# Altium integrated library Analog Devices Data Converters Digital-to-Analog Converters.IntLib: 2231 symbols (part 78 of 181)
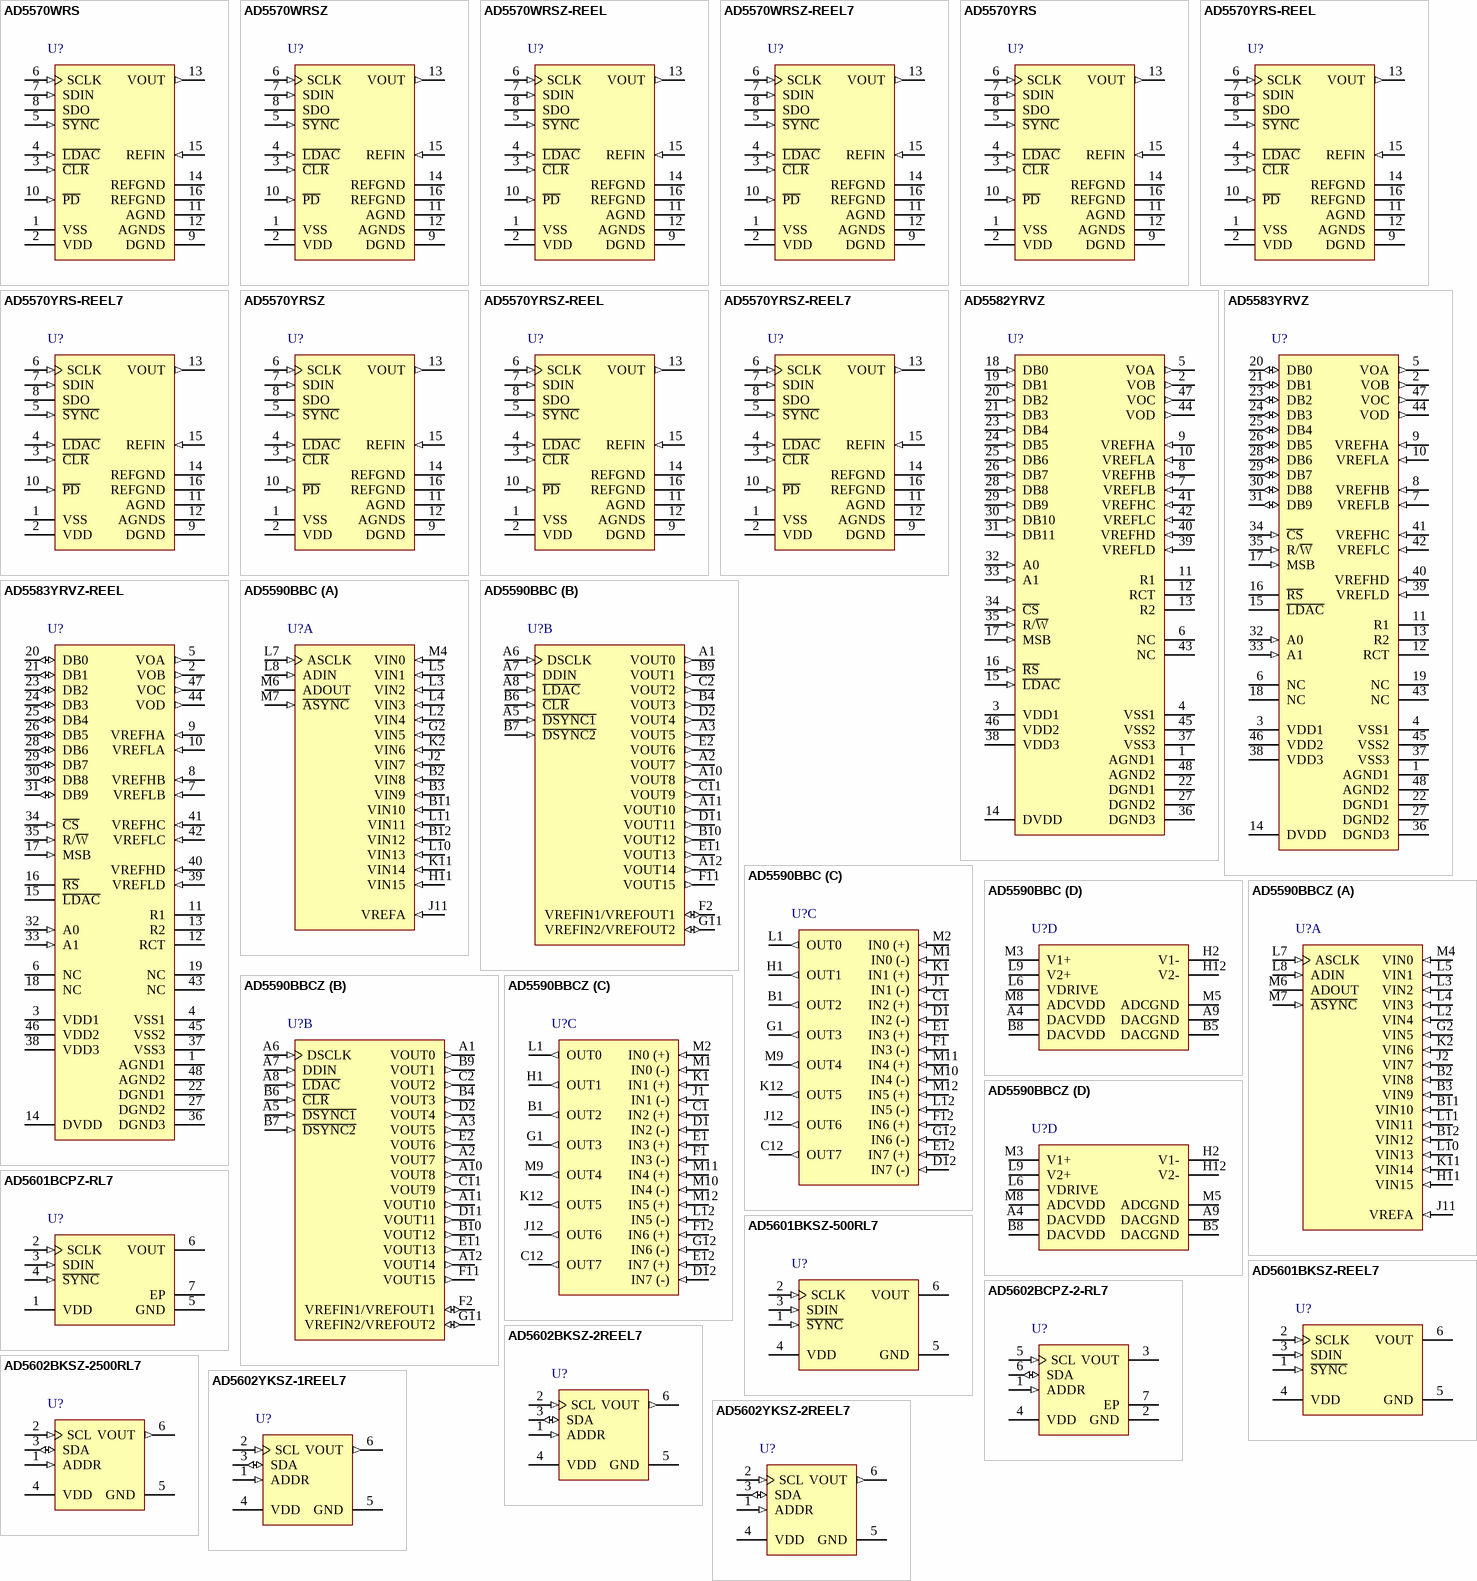
[diagram p191: symbols AD5570WRS to AD5602YKSZ-2REEL7]

## AD5602YKSZ-1REEL7
designator U?
Single 8-Bit nanoDAC with I2C Interface, 2.7 to 5.5 V, <100 uA, -40 to +125 degC, KS-6, Pb-Free, Reel; Generic Part Number: AD5602; Manufacturer: Analog Devices; PartNumber: AD5602YKSZ-1REEL7; # DAC Outputs: 1; Max V+: 5.5V; Op Pwr Diss: 500µW; Resolution (Bits): 8; Settling Time: 6µs; Single Supply: Yes; DatasheetVersion: Rev.C; PackageVersion: 072809-A; PackageReference: KS-6; PackageDescription: 6-Lead Thin Shrink Small Outline Transistor Package [SC70]; Supplier 1: Digi-Key; Supplier Part Number 1: AD5602YKSZ-1REEL7TR-ND; Supplier 2: Digi-Key; Supplier Part Number 2: AD5602YKSZ-1REEL7CT-ND; Supplier 3: Digi-Key; Supplier Part Number 3: AD5602YKSZ-1REEL7DKR-ND; Supplier 4: Mouser; Supplier Part Number 4: 584-AD5602YKSZ-1R7; Packing: Reel; RoHS: Y; Mounting Technology: Surface Mount; Code_JEDEC: MO-203-AB; ComponentLink1Description: Manufacturer URL; ComponentLink1URL: http://www.analog.com/en/index.html; ComponentLink2Description: Datasheet; ComponentLink2URL: http://www.analog.com/static/imported-files/data_sheets/AD5602_5612_5622.pdf; ComponentLink3Description: Package Specification; ComponentLink3URL: http://www.analog.com/static/imported-files/packages/PKG_PDF/SC70(KS)/KS_6.pdf; ComponentLink4Description: Product URL; ComponentLink4URL: http://www.analog.com/en/digital-to-analog-converters/da-converters/ad5602/products/product.html
footprint KS-6_N (SOT23, 6-Leads, Body 2x1.3mm, Pitch 0.65mm, Lead Span 2.1mm, IPC Medium Density)
footprint KS-6_L (SOT23, 6-Leads, Body 2x1.3mm, Pitch 0.65mm, Lead Span 2.1mm, IPC High Density)
footprint KS-6_M (SOT23, 6-Leads, Body 2x1.3mm, Pitch 0.65mm, Lead Span 2.1mm, IPC Low Density)
pins: 1 ADDR (in) "Three-State Address Input. Sets the two least significant bits (Bit A1, Bit A0) of the 7-bit slave address.", 2 SCL (in) "Serial Clock Line. This is used in conjunction with the SDA line to clock data into or out of the 16-bit input register.", 3 SDA (io) "Serial Data Line. This is used in conjunction with the SCL line to clock data into or out of the 16-bit input register. It is a bidirectional, open-drain data line that should be pulled to the supply with an external pull-up (See Datasheet)", 4 VDD (power) "Power Supply Input. These parts can be operated from 2.7 V to 5.5 V, and VDD should be decoupled to GND.", 5 GND (power) "Ground. The ground reference point for all circuitry on the part.", 6 VOUT (out) "Analog Output Voltage from the DAC. The output amplifier has rail-to-rail operation."

## AD5602YKSZ-2REEL7
designator U?
Single 8-Bit nanoDAC with I2C Interface, 2.7 to 5.5 V, <100 uA, -40 to +125 degC, KS-6, Pb-Free, Reel; Generic Part Number: AD5602; Manufacturer: Analog Devices; PartNumber: AD5602YKSZ-2REEL7; # DAC Outputs: 1; Max V+: 5.5V; Op Pwr Diss: 500µW; Resolution (Bits): 8; Settling Time: 6µs; Single Supply: Yes; DatasheetVersion: Rev.C; PackageVersion: 072809-A; PackageReference: KS-6; PackageDescription: 6-Lead Thin Shrink Small Outline Transistor Package [SC70]; Supplier 1: Digi-Key; Supplier Part Number 1: AD5602YKSZ-2REEL7TR-ND; Supplier 2: Digi-Key; Supplier Part Number 2: AD5602YKSZ-2REEL7CT-ND; Supplier 3: Digi-Key; Supplier Part Number 3: AD5602YKSZ-2REEL7DKR-ND; Supplier 4: Mouser; Supplier Part Number 4: 584-AD5602YKSZ-2R7; Packing: Reel; RoHS: Y; Mounting Technology: Surface Mount; Code_JEDEC: MO-203-AB; ComponentLink1Description: Manufacturer URL; ComponentLink1URL: http://www.analog.com/en/index.html; ComponentLink2Description: Datasheet; ComponentLink2URL: http://www.analog.com/static/imported-files/data_sheets/AD5602_5612_5622.pdf; ComponentLink3Description: Package Specification; ComponentLink3URL: http://www.analog.com/static/imported-files/packages/PKG_PDF/SC70(KS)/KS_6.pdf; ComponentLink4Description: Product URL; ComponentLink4URL: http://www.analog.com/en/digital-to-analog-converters/da-converters/ad5602/products/product.html
footprint KS-6_N (SOT23, 6-Leads, Body 2x1.3mm, Pitch 0.65mm, Lead Span 2.1mm, IPC Medium Density)
footprint KS-6_L (SOT23, 6-Leads, Body 2x1.3mm, Pitch 0.65mm, Lead Span 2.1mm, IPC High Density)
footprint KS-6_M (SOT23, 6-Leads, Body 2x1.3mm, Pitch 0.65mm, Lead Span 2.1mm, IPC Low Density)
pins: 1 ADDR (in) "Three-State Address Input. Sets the two least significant bits (Bit A1, Bit A0) of the 7-bit slave address.", 2 SCL (in) "Serial Clock Line. This is used in conjunction with the SDA line to clock data into or out of the 16-bit input register.", 3 SDA (io) "Serial Data Line. This is used in conjunction with the SCL line to clock data into or out of the 16-bit input register. It is a bidirectional, open-drain data line that should be pulled to the supply with an external pull-up (See Datasheet)", 4 VDD (power) "Power Supply Input. These parts can be operated from 2.7 V to 5.5 V, and VDD should be decoupled to GND.", 5 GND (power) "Ground. The ground reference point for all circuitry on the part.", 6 VOUT (out) "Analog Output Voltage from the DAC. The output amplifier has rail-to-rail operation."

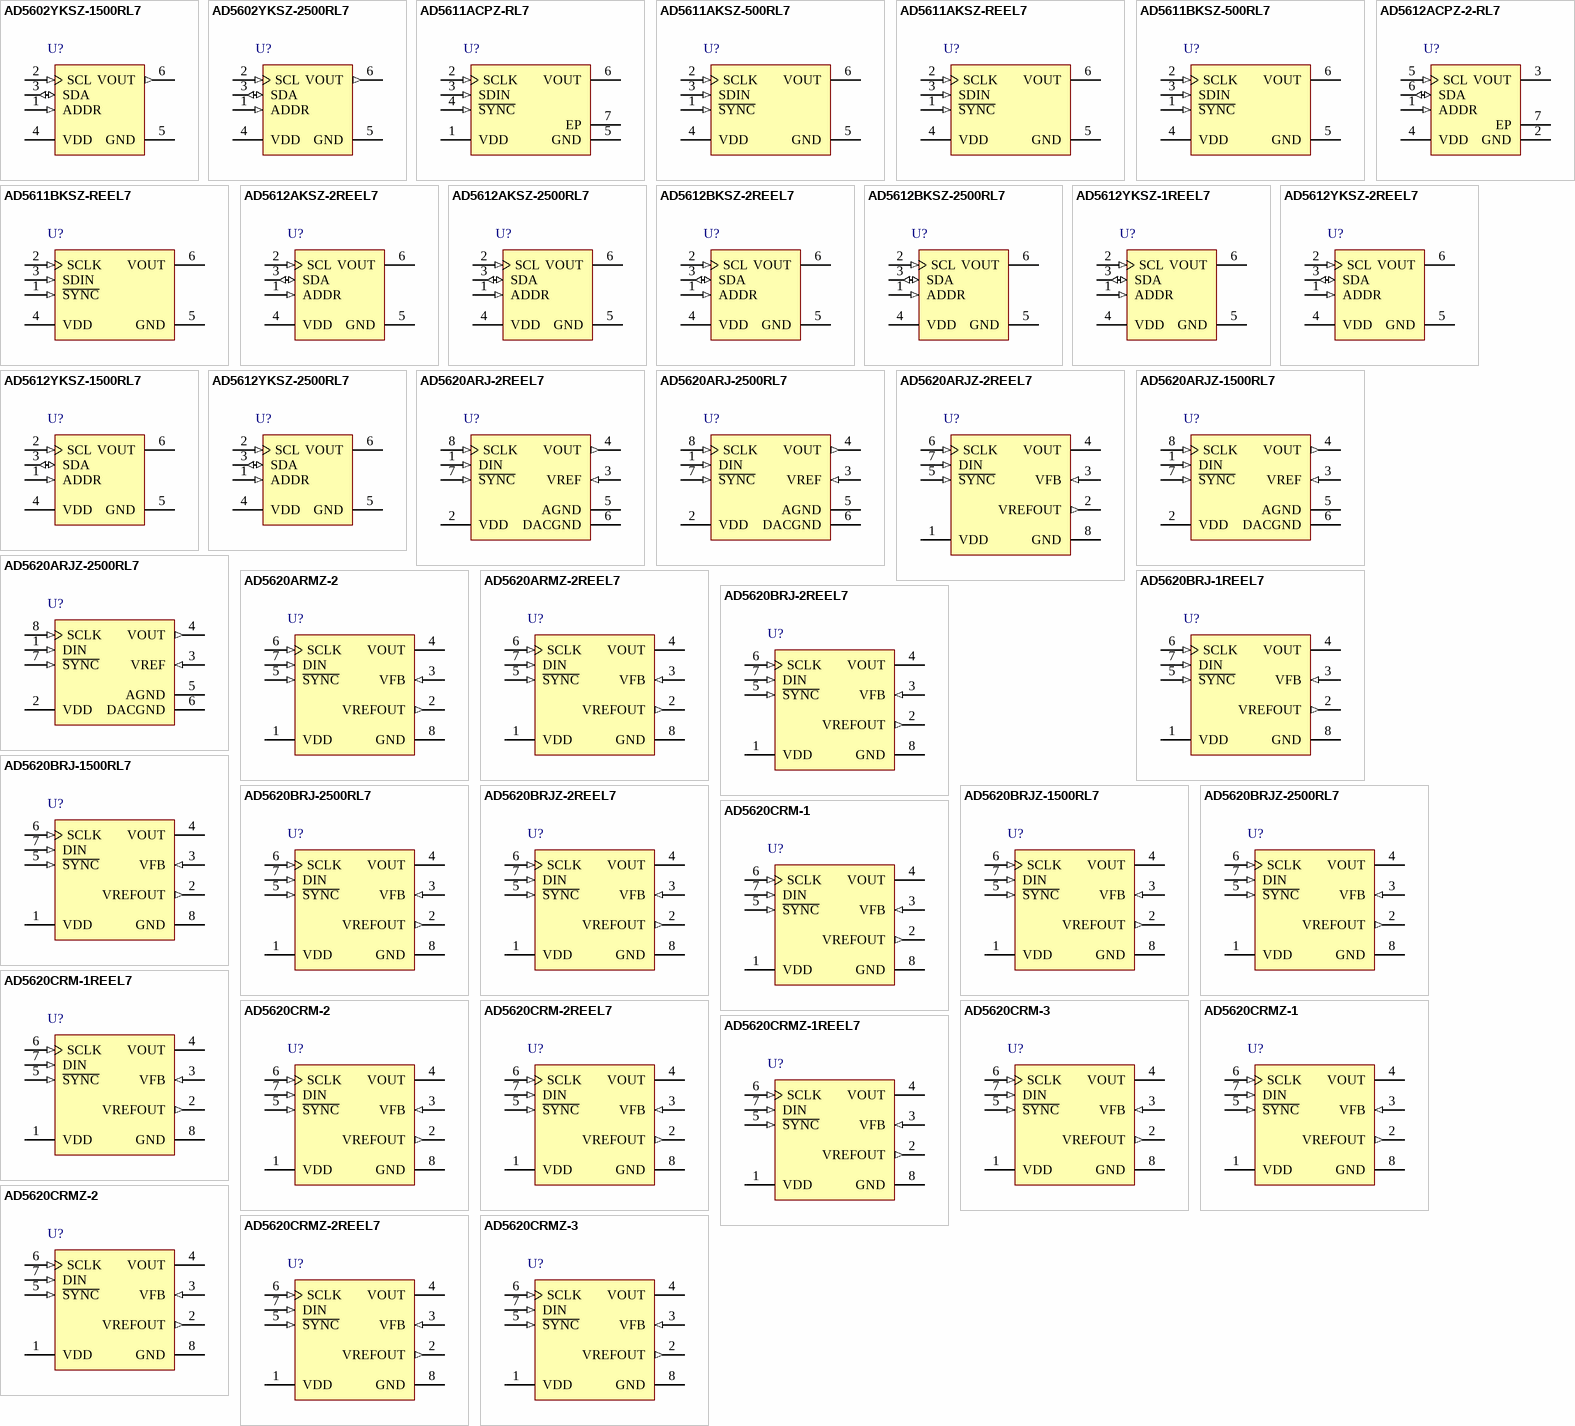
[diagram p43: symbols AD5602YKSZ-1500RL7 to AD5620CRMZ-3]

## AD5602YKSZ-1500RL7
designator U?
Single 8-Bit nanoDAC with I2C Interface, 2.7 to 5.5 V, <100 uA, -40 to +125 degC, KS-6, Pb-Free, Reel; Generic Part Number: AD5602; Manufacturer: Analog Devices; PartNumber: AD5602YKSZ-1500RL7; # DAC Outputs: 1; Max V+: 5.5V; Op Pwr Diss: 500µW; Resolution (Bits): 8; Settling Time: 6µs; Single Supply: Yes; DatasheetVersion: Rev.C; PackageVersion: 072809-A; PackageReference: KS-6; PackageDescription: 6-Lead Thin Shrink Small Outline Transistor Package [SC70]; Supplier 1: Digi-Key; Supplier Part Number 1: AD5602YKSZ-1500RL7TR-ND; Supplier 2: Digi-Key; Supplier Part Number 2: AD5602YKSZ-1500RL7CT-ND; Supplier 3: Digi-Key; Supplier Part Number 3: AD5602YKSZ-1500RL7DKR-ND; Supplier 4: Mouser; Supplier Part Number 4: 584-AD5602YKSZ1500R7; Packing: Reel; RoHS: Y; Mounting Technology: Surface Mount; Code_JEDEC: MO-203-AB; ComponentLink1Description: Manufacturer URL; ComponentLink1URL: http://www.analog.com/en/index.html; ComponentLink2Description: Datasheet; ComponentLink2URL: http://www.analog.com/static/imported-files/data_sheets/AD5602_5612_5622.pdf; ComponentLink3Description: Package Specification; ComponentLink3URL: http://www.analog.com/static/imported-files/packages/PKG_PDF/SC70(KS)/KS_6.pdf; ComponentLink4Description: Product URL; ComponentLink4URL: http://www.analog.com/en/digital-to-analog-converters/da-converters/ad5602/products/product.html
footprint KS-6_N (SOT23, 6-Leads, Body 2x1.3mm, Pitch 0.65mm, Lead Span 2.1mm, IPC Medium Density)
footprint KS-6_L (SOT23, 6-Leads, Body 2x1.3mm, Pitch 0.65mm, Lead Span 2.1mm, IPC High Density)
footprint KS-6_M (SOT23, 6-Leads, Body 2x1.3mm, Pitch 0.65mm, Lead Span 2.1mm, IPC Low Density)
pins: 1 ADDR (in) "Three-State Address Input. Sets the two least significant bits (Bit A1, Bit A0) of the 7-bit slave address.", 2 SCL (in) "Serial Clock Line. This is used in conjunction with the SDA line to clock data into or out of the 16-bit input register.", 3 SDA (io) "Serial Data Line. This is used in conjunction with the SCL line to clock data into or out of the 16-bit input register. It is a bidirectional, open-drain data line that should be pulled to the supply with an external pull-up (See Datasheet)", 4 VDD (power) "Power Supply Input. These parts can be operated from 2.7 V to 5.5 V, and VDD should be decoupled to GND.", 5 GND (power) "Ground. The ground reference point for all circuitry on the part.", 6 VOUT (out) "Analog Output Voltage from the DAC. The output amplifier has rail-to-rail operation."

## AD5602YKSZ-2500RL7
designator U?
Single 8-Bit nanoDAC with I2C Interface, 2.7 to 5.5 V, <100 uA, -40 to +125 degC, KS-6, Pb-Free, Reel; Generic Part Number: AD5602; Manufacturer: Analog Devices; PartNumber: AD5602YKSZ-2500RL7; # DAC Outputs: 1; Max V+: 5.5V; Op Pwr Diss: 500µW; Resolution (Bits): 8; Settling Time: 6µs; Single Supply: Yes; DatasheetVersion: Rev.C; PackageVersion: 072809-A; PackageReference: KS-6; PackageDescription: 6-Lead Thin Shrink Small Outline Transistor Package [SC70]; Supplier 1: Digi-Key; Supplier Part Number 1: AD5602YKSZ-2500RL7TR-ND; Supplier 2: Digi-Key; Supplier Part Number 2: AD5602YKSZ-2500RL7CT-ND; Supplier 3: Digi-Key; Supplier Part Number 3: AD5602YKSZ-2500RL7DKR-ND; Supplier 4: Mouser; Supplier Part Number 4: 584-AD5602YKSZ2500R7; Packing: Reel; RoHS: Y; Mounting Technology: Surface Mount; Code_JEDEC: MO-203-AB; ComponentLink1Description: Manufacturer URL; ComponentLink1URL: http://www.analog.com/en/index.html; ComponentLink2Description: Datasheet; ComponentLink2URL: http://www.analog.com/static/imported-files/data_sheets/AD5602_5612_5622.pdf; ComponentLink3Description: Package Specification; ComponentLink3URL: http://www.analog.com/static/imported-files/packages/PKG_PDF/SC70(KS)/KS_6.pdf; ComponentLink4Description: Product URL; ComponentLink4URL: http://www.analog.com/en/digital-to-analog-converters/da-converters/ad5602/products/product.html
footprint KS-6_N (SOT23, 6-Leads, Body 2x1.3mm, Pitch 0.65mm, Lead Span 2.1mm, IPC Medium Density)
footprint KS-6_L (SOT23, 6-Leads, Body 2x1.3mm, Pitch 0.65mm, Lead Span 2.1mm, IPC High Density)
footprint KS-6_M (SOT23, 6-Leads, Body 2x1.3mm, Pitch 0.65mm, Lead Span 2.1mm, IPC Low Density)
pins: 1 ADDR (in) "Three-State Address Input. Sets the two least significant bits (Bit A1, Bit A0) of the 7-bit slave address.", 2 SCL (in) "Serial Clock Line. This is used in conjunction with the SDA line to clock data into or out of the 16-bit input register.", 3 SDA (io) "Serial Data Line. This is used in conjunction with the SCL line to clock data into or out of the 16-bit input register. It is a bidirectional, open-drain data line that should be pulled to the supply with an external pull-up (See Datasheet)", 4 VDD (power) "Power Supply Input. These parts can be operated from 2.7 V to 5.5 V, and VDD should be decoupled to GND.", 5 GND (power) "Ground. The ground reference point for all circuitry on the part.", 6 VOUT (out) "Analog Output Voltage from the DAC. The output amplifier has rail-to-rail operation."

## AD5611ACPZ-RL7
designator U?
Single 10-Bit nanoDAC with SPI Interface, 2.7 to 5.5 V, <100 uA, -40 to +125 degC, CP-6-5, Pb-Free, Reel; Generic Part Number: AD5611; Manufacturer: Analog Devices; PartNumber: AD5611ACPZ-RL7; # DAC Outputs: 1; Max V+: 5.5V; Op Pwr Diss: 550µW; Resolution (Bits): 10; Settling Time: 6µs; Single Supply: Yes; DatasheetVersion: Rev.F; PackageVersion: 10-18-2010 A; PackageReference: CP-6-5; PackageDescription: 6-Lead Lead Frame Chip Scale Package [LFCSP_WD] 2 × 3 mm Body, Very Very Thin, Dual Lead; Supplier 1: Digi-Key; Supplier Part Number 1: AD5611ACPZ-RL7TR-ND; Supplier 2: Digi-Key; Supplier Part Number 2: AD5611ACPZ-RL7CT-ND; Supplier 3: Digi-Key; Supplier Part Number 3: AD5611ACPZ-RL7DKR-ND; Supplier 4: Newark; Supplier Part Number 4: 86T6088; Supplier 5: Newark; Supplier Part Number 5: 92T3212; Supplier 6: Mouser; Supplier Part Number 6: 584-AD5611ACPZ-R7; Packing: Reel; RoHS: Y; Mounting Technology: Surface Mount; Code_JEDEC: MO-229; ComponentLink1Description: Manufacturer URL; ComponentLink1URL: http://www.analog.com/en/index.html; ComponentLink2Description: Datasheet; ComponentLink2URL: http://www.analog.com/static/imported-files/data_sheets/AD5601_5611_5621.pdf; ComponentLink3Description: Package Specification; ComponentLink3URL: http://www.analog.com/static/imported-files/data_sheets/AD5062.pdf; ComponentLink4Description: Product URL; ComponentLink4URL: http://www.analog.com/en/digital-to-analog-converters/da-converters/ad5611/products/product.html
footprint CP-6-5_N (SON, 6-Leads, Body 3x2mm, Pitch 0.65mm, Thermal Pad 1.6x1.4mm, IPC Medium Density)
footprint CP-6-5_L (SON, 6-Leads, Body 3x2mm, Pitch 0.65mm, Thermal Pad 1.6x1.4mm, IPC High Density)
footprint CP-6-5_M (SON, 6-Leads, Body 3x2mm, Pitch 0.65mm, Thermal Pad 1.6x1.4mm, IPC Low Density)
pins: 1 VDD (power) "Power Supply Input. The AD5611 can be operated from 2.7 V to 5.5 V. VDD should be decoupled to GND.", 2 SCLK (in) "Serial Clock Input. Data is clocked into the input shift register on the falling edge of the serial clock input. Data can be transferred at rates up to 30 MHz.", 3 SDIN (in) "Serial Data Input. This device has a 16-bit shift register. Data is clocked into the register on the falling edge of the serial clock input.", 4 ~{SYNC} (in) "Level-Triggered Control Input (Active Low). This is the frame synchronization signal for the input data. When S\Y\N\C\ goes low, it enables the input shift register, and data is transferred in on the falling edges of the (See Datasheet)", 5 GND (power) "Ground. Ground reference point for all circuitry on the AD5611.", 6 VOUT (hiz) "Analog Output Voltage from the DAC. The output amplifier has rail-to-rail operation.", 7 EP (power) "Exposed Pad. Connect to GND."

## AD5611AKSZ-500RL7
designator U?
Single 10-Bit nanoDAC with SPI Interface, 2.7 to 5.5 V, <100 uA, -40 to +125 degC, KS-6, Pb-Free, Reel; Generic Part Number: AD5611; Manufacturer: Analog Devices; PartNumber: AD5611AKSZ-500RL7; # DAC Outputs: 1; Max V+: 5.5V; Op Pwr Diss: 550µW; Resolution (Bits): 10; Settling Time: 6µs; Single Supply: Yes; DatasheetVersion: Rev.F; PackageVersion: 072809-A; PackageReference: KS-6; PackageDescription: 6-Lead Thin Shrink Small Outline Transistor Package [SC70]; Supplier 1: Digi-Key; Supplier Part Number 1: AD5611AKSZ-500RL7TR-ND; Supplier 2: Digi-Key; Supplier Part Number 2: AD5611AKSZ-500RL7CT-ND; Supplier 3: Digi-Key; Supplier Part Number 3: AD5611AKSZ-500RL7DKR-ND; Supplier 4: Farnell; Supplier Part Number 4: 1117912; Supplier 5: Farnell; Supplier Part Number 5: 1472413; Supplier 6: Newark; Supplier Part Number 6: 59K4267; Supplier 7: Mouser; Supplier Part Number 7: 584-AD5611AKSZ-500R7; Packing: Reel; RoHS: Y; Mounting Technology: Surface Mount; Code_JEDEC: MO-203-AB; ComponentLink1Description: Manufacturer URL; ComponentLink1URL: http://www.analog.com/en/index.html; ComponentLink2Description: Datasheet; ComponentLink2URL: http://www.analog.com/static/imported-files/data_sheets/AD5601_5611_5621.pdf; ComponentLink3Description: Package Specification; ComponentLink3URL: http://www.analog.com/static/imported-files/packages/PKG_PDF/SC70(KS)/KS_6.pdf; ComponentLink4Description: Product URL; ComponentLink4URL: http://www.analog.com/en/digital-to-analog-converters/da-converters/ad5611/products/product.html
footprint KS-6_N (SOT23, 6-Leads, Body 2x1.3mm, Pitch 0.65mm, Lead Span 2.1mm, IPC Medium Density)
footprint KS-6_L (SOT23, 6-Leads, Body 2x1.3mm, Pitch 0.65mm, Lead Span 2.1mm, IPC High Density)
footprint KS-6_M (SOT23, 6-Leads, Body 2x1.3mm, Pitch 0.65mm, Lead Span 2.1mm, IPC Low Density)
pins: 1 ~{SYNC} (in) "Level-Triggered Control Input (Active Low). This is the frame synchronization signal for the input data. When S\Y\N\C\  goes low, it enables the input shift register, and data is transferred in on the falling edges of the (See Datasheet)", 2 SCLK (in) "Serial Clock Input. Data is clocked into the input shift register on the falling edge of the serial clock input. Data can be transferred at rates up to 30 MHz.", 3 SDIN (in) "Serial Data Input. This device has a 16-bit shift register. Data is clocked into the register on the falling edge of the serial clock input.", 4 VDD (power) "Power Supply Input. The AD5611 can be operated from 2.7 V to 5.5 V. VDD should be decoupled to GND.", 5 GND (power) "Ground. Ground reference point for all circuitry on the AD5611.", 6 VOUT (hiz) "Analog Output Voltage from the DAC. The output amplifier has rail-to-rail operation."

## AD5611AKSZ-REEL7
designator U?
Single 10-Bit nanoDAC with SPI Interface, 2.7 to 5.5 V, <100 uA, -40 to +125 degC, KS-6, Pb-Free, Reel; Generic Part Number: AD5611; Manufacturer: Analog Devices; PartNumber: AD5611AKSZ-REEL7; # DAC Outputs: 1; Max V+: 5.5V; Op Pwr Diss: 550µW; Resolution (Bits): 10; Settling Time: 6µs; Single Supply: Yes; DatasheetVersion: Rev.F; PackageVersion: 072809-A; PackageReference: KS-6; PackageDescription: 6-Lead Thin Shrink Small Outline Transistor Package [SC70]; Supplier 1: Digi-Key; Supplier Part Number 1: AD5611AKSZ-REEL7TR-ND; Supplier 2: Digi-Key; Supplier Part Number 2: AD5611AKSZ-REEL7CT-ND; Supplier 3: Digi-Key; Supplier Part Number 3: AD5611AKSZ-REEL7DKR-ND; Supplier 4: Newark; Supplier Part Number 4: 59K4266; Supplier 5: Mouser; Supplier Part Number 5: 584-AD5611AKSZ-R7; Packing: Reel; RoHS: Y; Mounting Technology: Surface Mount; Code_JEDEC: MO-203-AB; ComponentLink1Description: Manufacturer URL; ComponentLink1URL: http://www.analog.com/en/index.html; ComponentLink2Description: Datasheet; ComponentLink2URL: http://www.analog.com/static/imported-files/data_sheets/AD5601_5611_5621.pdf; ComponentLink3Description: Package Specification; ComponentLink3URL: http://www.analog.com/static/imported-files/packages/PKG_PDF/SC70(KS)/KS_6.pdf; ComponentLink4Description: Product URL; ComponentLink4URL: http://www.analog.com/en/digital-to-analog-converters/da-converters/ad5611/products/product.html
footprint KS-6_N (SOT23, 6-Leads, Body 2x1.3mm, Pitch 0.65mm, Lead Span 2.1mm, IPC Medium Density)
footprint KS-6_L (SOT23, 6-Leads, Body 2x1.3mm, Pitch 0.65mm, Lead Span 2.1mm, IPC High Density)
footprint KS-6_M (SOT23, 6-Leads, Body 2x1.3mm, Pitch 0.65mm, Lead Span 2.1mm, IPC Low Density)
pins: 1 ~{SYNC} (in) "Level-Triggered Control Input (Active Low). This is the frame synchronization signal for the input data. When S\Y\N\C\  goes low, it enables the input shift register, and data is transferred in on the falling edges of the (See Datasheet)", 2 SCLK (in) "Serial Clock Input. Data is clocked into the input shift register on the falling edge of the serial clock input. Data can be transferred at rates up to 30 MHz.", 3 SDIN (in) "Serial Data Input. This device has a 16-bit shift register. Data is clocked into the register on the falling edge of the serial clock input.", 4 VDD (power) "Power Supply Input. The AD5611 can be operated from 2.7 V to 5.5 V. VDD should be decoupled to GND.", 5 GND (power) "Ground. Ground reference point for all circuitry on the AD5611.", 6 VOUT (hiz) "Analog Output Voltage from the DAC. The output amplifier has rail-to-rail operation."

## AD5611BKSZ-500RL7
designator U?
Single 10-Bit nanoDAC with SPI Interface, 2.7 to 5.5 V, <100 uA, -40 to +125 degC, KS-6, Pb-Free, Reel; Generic Part Number: AD5611; Manufacturer: Analog Devices; PartNumber: AD5611BKSZ-500RL7; # DAC Outputs: 1; Max V+: 5.5V; Op Pwr Diss: 550µW; Resolution (Bits): 10; Settling Time: 6µs; Single Supply: Yes; DatasheetVersion: Rev.F; PackageVersion: 072809-A; PackageReference: KS-6; PackageDescription: 6-Lead Thin Shrink Small Outline Transistor Package [SC70]; Supplier 1: Digi-Key; Supplier Part Number 1: AD5611BKSZ-500RL7-ND; Supplier 2: Newark; Supplier Part Number 2: 64M7533; Supplier 3: Mouser; Supplier Part Number 3: 584-AD5611BKSZ-500R7; Packing: Reel; RoHS: Y; Mounting Technology: Surface Mount; Code_JEDEC: MO-203-AB; ComponentLink1Description: Manufacturer URL; ComponentLink1URL: http://www.analog.com/en/index.html; ComponentLink2Description: Datasheet; ComponentLink2URL: http://www.analog.com/static/imported-files/data_sheets/AD5601_5611_5621.pdf; ComponentLink3Description: Package Specification; ComponentLink3URL: http://www.analog.com/static/imported-files/packages/PKG_PDF/SC70(KS)/KS_6.pdf; ComponentLink4Description: Product URL; ComponentLink4URL: http://www.analog.com/en/digital-to-analog-converters/da-converters/ad5611/products/product.html
footprint KS-6_N (SOT23, 6-Leads, Body 2x1.3mm, Pitch 0.65mm, Lead Span 2.1mm, IPC Medium Density)
footprint KS-6_L (SOT23, 6-Leads, Body 2x1.3mm, Pitch 0.65mm, Lead Span 2.1mm, IPC High Density)
footprint KS-6_M (SOT23, 6-Leads, Body 2x1.3mm, Pitch 0.65mm, Lead Span 2.1mm, IPC Low Density)
pins: 1 ~{SYNC} (in) "Level-Triggered Control Input (Active Low). This is the frame synchronization signal for the input data. When S\Y\N\C\  goes low, it enables the input shift register, and data is transferred in on the falling edges of the (See Datasheet)", 2 SCLK (in) "Serial Clock Input. Data is clocked into the input shift register on the falling edge of the serial clock input. Data can be transferred at rates up to 30 MHz.", 3 SDIN (in) "Serial Data Input. This device has a 16-bit shift register. Data is clocked into the register on the falling edge of the serial clock input.", 4 VDD (power) "Power Supply Input. The AD5611 can be operated from 2.7 V to 5.5 V. VDD should be decoupled to GND.", 5 GND (power) "Ground. Ground reference point for all circuitry on the AD5611.", 6 VOUT (hiz) "Analog Output Voltage from the DAC. The output amplifier has rail-to-rail operation."

## AD5611BKSZ-REEL7
designator U?
Single 10-Bit nanoDAC with SPI Interface, 2.7 to 5.5 V, <100 uA, -40 to +125 degC, KS-6, Pb-Free, Reel; Generic Part Number: AD5611; Manufacturer: Analog Devices; PartNumber: AD5611BKSZ-REEL7; # DAC Outputs: 1; Max V+: 5.5V; Op Pwr Diss: 550µW; Resolution (Bits): 10; Settling Time: 6µs; Single Supply: Yes; DatasheetVersion: Rev.F; PackageVersion: 072809-A; PackageReference: KS-6; PackageDescription: 6-Lead Thin Shrink Small Outline Transistor Package [SC70]; Supplier 1: Digi-Key; Supplier Part Number 1: AD5611BKSZ-REEL7TR-ND; Supplier 2: Digi-Key; Supplier Part Number 2: AD5611BKSZ-REEL7CT-ND; Supplier 3: Digi-Key; Supplier Part Number 3: AD5611BKSZ-REEL7DKR-ND; Supplier 4: Farnell; Supplier Part Number 4: 2102391; Supplier 5: Newark; Supplier Part Number 5: 59K4268; Supplier 6: Newark; Supplier Part Number 6: 92T3213; Supplier 7: Mouser; Supplier Part Number 7: 584-AD5611BKSZ-R7; Packing: Reel; RoHS: Y; Mounting Technology: Surface Mount; Code_JEDEC: MO-203-AB; ComponentLink1Description: Manufacturer URL; ComponentLink1URL: http://www.analog.com/en/index.html; ComponentLink2Description: Datasheet; ComponentLink2URL: http://www.analog.com/static/imported-files/data_sheets/AD5601_5611_5621.pdf; ComponentLink3Description: Package Specification; ComponentLink3URL: http://www.analog.com/static/imported-files/packages/PKG_PDF/SC70(KS)/KS_6.pdf; ComponentLink4Description: Product URL; ComponentLink4URL: http://www.analog.com/en/digital-to-analog-converters/da-converters/ad5611/products/product.html
footprint KS-6_N (SOT23, 6-Leads, Body 2x1.3mm, Pitch 0.65mm, Lead Span 2.1mm, IPC Medium Density)
footprint KS-6_L (SOT23, 6-Leads, Body 2x1.3mm, Pitch 0.65mm, Lead Span 2.1mm, IPC High Density)
footprint KS-6_M (SOT23, 6-Leads, Body 2x1.3mm, Pitch 0.65mm, Lead Span 2.1mm, IPC Low Density)
pins: 1 ~{SYNC} (in) "Level-Triggered Control Input (Active Low). This is the frame synchronization signal for the input data. When S\Y\N\C\  goes low, it enables the input shift register, and data is transferred in on the falling edges of the (See Datasheet)", 2 SCLK (in) "Serial Clock Input. Data is clocked into the input shift register on the falling edge of the serial clock input. Data can be transferred at rates up to 30 MHz.", 3 SDIN (in) "Serial Data Input. This device has a 16-bit shift register. Data is clocked into the register on the falling edge of the serial clock input.", 4 VDD (power) "Power Supply Input. The AD5611 can be operated from 2.7 V to 5.5 V. VDD should be decoupled to GND.", 5 GND (power) "Ground. Ground reference point for all circuitry on the AD5611.", 6 VOUT (hiz) "Analog Output Voltage from the DAC. The output amplifier has rail-to-rail operation."

## AD5612ACPZ-2-RL7
designator U?
Single 10-Bit nanoDAC with I2C Interface, 2.7 to 5.5 V, <100 uA, -40 to +85 degC, CP-6-5, Pb-Free, Reel; Generic Part Number: AD5612; Manufacturer: Analog Devices; PartNumber: AD5612ACPZ-2-RL7; # DAC Outputs: 1; Max V+: 5.5V; Op Pwr Diss: 500µW; Resolution (Bits): 10; Settling Time: 6µs; Single Supply: Yes; DatasheetVersion: Rev.C; PackageVersion: 10-18-2010 A; PackageReference: CP-6-5; PackageDescription: 6-Lead Lead Frame Chip Scale Package [LFCSP_WD] 2 × 3 mm Body, Very Very Thin, Dual Lead; Supplier 1: Digi-Key; Supplier Part Number 1: AD5612ACPZ-2-RL7TR-ND; Supplier 2: Digi-Key; Supplier Part Number 2: AD5612ACPZ-2-RL7CT-ND; Supplier 3: Digi-Key; Supplier Part Number 3: AD5612ACPZ-2-RL7DKR-ND; Supplier 4: Mouser; Supplier Part Number 4: 584-AD5612ACPZ-2-R7; Packing: Reel; RoHS: Y; Mounting Technology: Surface Mount; Code_JEDEC: MO-229; ComponentLink1Description: Manufacturer URL; ComponentLink1URL: http://www.analog.com/en/index.html; ComponentLink2Description: Datasheet; ComponentLink2URL: http://www.analog.com/static/imported-files/data_sheets/AD5602_5612_5622.pdf; ComponentLink3Description: Package Specification; ComponentLink3URL: http://www.analog.com/static/imported-files/data_sheets/AD5062.pdf; ComponentLink4Description: Product URL; ComponentLink4URL: http://www.analog.com/en/digital-to-analog-converters/da-converters/ad5612/products/product.html
footprint CP-6-5_N (SON, 6-Leads, Body 3x2mm, Pitch 0.65mm, Thermal Pad 1.6x1.4mm, IPC Medium Density)
footprint CP-6-5_L (SON, 6-Leads, Body 3x2mm, Pitch 0.65mm, Thermal Pad 1.6x1.4mm, IPC High Density)
footprint CP-6-5_M (SON, 6-Leads, Body 3x2mm, Pitch 0.65mm, Thermal Pad 1.6x1.4mm, IPC Low Density)
pins: 1 ADDR (in) "Three-State Address Input. Sets the two least significant bits (Bit A1, Bit A0) of the 7-bit slave address (see Table 7).", 2 GND (power) "Ground. The ground reference point for all circuitry on the part.", 3 VOUT (hiz) "Analog Output Voltage from the DAC. The output amplifier has rail-to-rail operation.", 4 VDD (power) "Power Supply Input. These parts can be operated from 2.7 V to 5.5 V, and VDD should be decoupled to GND.", 5 SCL (in) "Serial Clock Line. This is used in conjunction with the SDA line to clock data into or out of the 16-bit input register.", 6 SDA (io) "Serial Data Line. This is used in conjunction with the SCL line to clock data into or out of the 16-bit input register. It is a bidirectional, open-drain data line that should be pulled to the supply with an external pull-up (See Datasheet)", 7 EP (power) "Exposed Pad. The exposed pad should be connected to ground (GND)."

## AD5612AKSZ-2REEL7
designator U?
Single 10-Bit nanoDAC with I2C Interface, 2.7 to 5.5 V, <100 uA, -40 to +85 degC, KS-6, Pb-Free, Reel; Generic Part Number: AD5612; Manufacturer: Analog Devices; PartNumber: AD5612AKSZ-2REEL7; # DAC Outputs: 1; Max V+: 5.5V; Op Pwr Diss: 500µW; Resolution (Bits): 10; Settling Time: 6µs; Single Supply: Yes; DatasheetVersion: Rev.C; PackageVersion: 072809-A; PackageReference: KS-6; PackageDescription: 6-Lead Thin Shrink Small Outline Transistor Package [SC70]; Supplier 1: Digi-Key; Supplier Part Number 1: AD5612AKSZ-2REEL7TR-ND; Supplier 2: Digi-Key; Supplier Part Number 2: AD5612AKSZ-2REEL7CT-ND; Supplier 3: Digi-Key; Supplier Part Number 3: AD5612AKSZ-2REEL7DKR-ND; Supplier 4: Mouser; Supplier Part Number 4: 584-AD5612AKSZ-2R7; Packing: Reel; RoHS: Y; Mounting Technology: Surface Mount; Code_JEDEC: MO-203-AB; ComponentLink1Description: Manufacturer URL; ComponentLink1URL: http://www.analog.com/en/index.html; ComponentLink2Description: Datasheet; ComponentLink2URL: http://www.analog.com/static/imported-files/data_sheets/AD5602_5612_5622.pdf; ComponentLink3Description: Package Specification; ComponentLink3URL: http://www.analog.com/static/imported-files/packages/PKG_PDF/SC70(KS)/KS_6.pdf; ComponentLink4Description: Product URL; ComponentLink4URL: http://www.analog.com/en/digital-to-analog-converters/da-converters/ad5612/products/product.html
footprint KS-6_N (SOT23, 6-Leads, Body 2x1.3mm, Pitch 0.65mm, Lead Span 2.1mm, IPC Medium Density)
footprint KS-6_L (SOT23, 6-Leads, Body 2x1.3mm, Pitch 0.65mm, Lead Span 2.1mm, IPC High Density)
footprint KS-6_M (SOT23, 6-Leads, Body 2x1.3mm, Pitch 0.65mm, Lead Span 2.1mm, IPC Low Density)
pins: 1 ADDR (in) "Three-State Address Input. Sets the two least significant bits (Bit A1, Bit A0) of the 7-bit slave address.", 2 SCL (in) "Serial Clock Line. This is used in conjunction with the SDA line to clock data into or out of the 16-bit input register.", 3 SDA (io) "Serial Data Line. This is used in conjunction with the SCL line to clock data into or out of the 16-bit input register. It is a bidirectional, open-drain data line that should be pulled to the supply with an external pull-up (See Datasheet)", 4 VDD (power) "Power Supply Input. These parts can be operated from 2.7 V to 5.5 V, and VDD should be decoupled to GND.", 5 GND (power) "Ground. The ground reference point for all circuitry on the part.", 6 VOUT (hiz) "Analog Output Voltage from the DAC.The output amplifier has rail-to-rail operation."

## AD5612AKSZ-2500RL7
designator U?
Single 10-Bit nanoDAC with I2C Interface, 2.7 to 5.5 V, <100 uA, -40 to +85 degC, KS-6, Pb-Free, Reel; Generic Part Number: AD5612; Manufacturer: Analog Devices; PartNumber: AD5612AKSZ-2500RL7; # DAC Outputs: 1; Max V+: 5.5V; Op Pwr Diss: 500µW; Resolution (Bits): 10; Settling Time: 6µs; Single Supply: Yes; DatasheetVersion: Rev.C; PackageVersion: 072809-A; PackageReference: KS-6; PackageDescription: 6-Lead Thin Shrink Small Outline Transistor Package [SC70]; Supplier 1: Digi-Key; Supplier Part Number 1: AD5612AKSZ-2500RL7TR-ND; Supplier 2: Digi-Key; Supplier Part Number 2: AD5612AKSZ-2500RL7CT-ND; Supplier 3: Digi-Key; Supplier Part Number 3: AD5612AKSZ-2500RL7DKR-ND; Supplier 4: Mouser; Supplier Part Number 4: 584-AD5612AKSZ2500R7; Packing: Reel; RoHS: Y; Mounting Technology: Surface Mount; Code_JEDEC: MO-203-AB; ComponentLink1Description: Manufacturer URL; ComponentLink1URL: http://www.analog.com/en/index.html; ComponentLink2Description: Datasheet; ComponentLink2URL: http://www.analog.com/static/imported-files/data_sheets/AD5602_5612_5622.pdf; ComponentLink3Description: Package Specification; ComponentLink3URL: http://www.analog.com/static/imported-files/packages/PKG_PDF/SC70(KS)/KS_6.pdf; ComponentLink4Description: Product URL; ComponentLink4URL: http://www.analog.com/en/digital-to-analog-converters/da-converters/ad5612/products/product.html
footprint KS-6_N (SOT23, 6-Leads, Body 2x1.3mm, Pitch 0.65mm, Lead Span 2.1mm, IPC Medium Density)
footprint KS-6_L (SOT23, 6-Leads, Body 2x1.3mm, Pitch 0.65mm, Lead Span 2.1mm, IPC High Density)
footprint KS-6_M (SOT23, 6-Leads, Body 2x1.3mm, Pitch 0.65mm, Lead Span 2.1mm, IPC Low Density)
pins: 1 ADDR (in) "Three-State Address Input. Sets the two least significant bits (Bit A1, Bit A0) of the 7-bit slave address.", 2 SCL (in) "Serial Clock Line. This is used in conjunction with the SDA line to clock data into or out of the 16-bit input register.", 3 SDA (io) "Serial Data Line. This is used in conjunction with the SCL line to clock data into or out of the 16-bit input register. It is a bidirectional, open-drain data line that should be pulled to the supply with an external pull-up (See Datasheet)", 4 VDD (power) "Power Supply Input. These parts can be operated from 2.7 V to 5.5 V, and VDD should be decoupled to GND.", 5 GND (power) "Ground. The ground reference point for all circuitry on the part.", 6 VOUT (hiz) "Analog Output Voltage from the DAC.The output amplifier has rail-to-rail operation."

## AD5612BKSZ-2REEL7
designator U?
Single 10-Bit nanoDAC with I2C Interface, 2.7 to 5.5 V, <100 uA, -40 to +85 degC, KS-6, Pb-Free, Reel; Generic Part Number: AD5612; Manufacturer: Analog Devices; PartNumber: AD5612BKSZ-2REEL7; # DAC Outputs: 1; Max V+: 5.5V; Op Pwr Diss: 500µW; Resolution (Bits): 10; Settling Time: 6µs; Single Supply: Yes; DatasheetVersion: Rev.C; PackageVersion: 072809-A; PackageReference: KS-6; PackageDescription: 6-Lead Thin Shrink Small Outline Transistor Package [SC70]; Supplier 1: Digi-Key; Supplier Part Number 1: AD5612BKSZ-2REEL7TR-ND; Supplier 2: Digi-Key; Supplier Part Number 2: AD5612BKSZ-2REEL7CT-ND; Supplier 3: Digi-Key; Supplier Part Number 3: AD5612BKSZ-2REEL7DKR-ND; Supplier 4: Newark; Supplier Part Number 4: 59K4271; Supplier 5: Mouser; Supplier Part Number 5: 584-AD5612BKSZ-2R7; Packing: Reel; RoHS: Y; Mounting Technology: Surface Mount; Code_JEDEC: MO-203-AB; ComponentLink1Description: Manufacturer URL; ComponentLink1URL: http://www.analog.com/en/index.html; ComponentLink2Description: Datasheet; ComponentLink2URL: http://www.analog.com/static/imported-files/data_sheets/AD5602_5612_5622.pdf; ComponentLink3Description: Package Specification; ComponentLink3URL: http://www.analog.com/static/imported-files/packages/PKG_PDF/SC70(KS)/KS_6.pdf; ComponentLink4Description: Product URL; ComponentLink4URL: http://www.analog.com/en/digital-to-analog-converters/da-converters/ad5612/products/product.html
footprint KS-6_N (SOT23, 6-Leads, Body 2x1.3mm, Pitch 0.65mm, Lead Span 2.1mm, IPC Medium Density)
footprint KS-6_L (SOT23, 6-Leads, Body 2x1.3mm, Pitch 0.65mm, Lead Span 2.1mm, IPC High Density)
footprint KS-6_M (SOT23, 6-Leads, Body 2x1.3mm, Pitch 0.65mm, Lead Span 2.1mm, IPC Low Density)
pins: 1 ADDR (in) "Three-State Address Input. Sets the two least significant bits (Bit A1, Bit A0) of the 7-bit slave address.", 2 SCL (in) "Serial Clock Line. This is used in conjunction with the SDA line to clock data into or out of the 16-bit input register.", 3 SDA (io) "Serial Data Line. This is used in conjunction with the SCL line to clock data into or out of the 16-bit input register. It is a bidirectional, open-drain data line that should be pulled to the supply with an external pull-up (See Datasheet)", 4 VDD (power) "Power Supply Input. These parts can be operated from 2.7 V to 5.5 V, and VDD should be decoupled to GND.", 5 GND (power) "Ground. The ground reference point for all circuitry on the part.", 6 VOUT (hiz) "Analog Output Voltage from the DAC.The output amplifier has rail-to-rail operation."

## AD5612BKSZ-2500RL7
designator U?
Single 10-Bit nanoDAC with I2C Interface, 2.7 to 5.5 V, <100 uA, -40 to +85 degC, KS-6, Pb-Free, Reel; Generic Part Number: AD5612; Manufacturer: Analog Devices; PartNumber: AD5612BKSZ-2500RL7; # DAC Outputs: 1; Max V+: 5.5V; Op Pwr Diss: 500µW; Resolution (Bits): 10; Settling Time: 6µs; Single Supply: Yes; DatasheetVersion: Rev.C; PackageVersion: 072809-A; PackageReference: KS-6; PackageDescription: 6-Lead Thin Shrink Small Outline Transistor Package [SC70]; Supplier 1: Digi-Key; Supplier Part Number 1: AD5612BKSZ-2500RL7TR-ND; Supplier 2: Digi-Key; Supplier Part Number 2: AD5612BKSZ-2500RL7CT-ND; Supplier 3: Digi-Key; Supplier Part Number 3: AD5612BKSZ-2500RL7DKR-ND; Supplier 4: Mouser; Supplier Part Number 4: 584-AD5612BKSZ2500R7; Packing: Reel; RoHS: Y; Mounting Technology: Surface Mount; Code_JEDEC: MO-203-AB; ComponentLink1Description: Manufacturer URL; ComponentLink1URL: http://www.analog.com/en/index.html; ComponentLink2Description: Datasheet; ComponentLink2URL: http://www.analog.com/static/imported-files/data_sheets/AD5602_5612_5622.pdf; ComponentLink3Description: Package Specification; ComponentLink3URL: http://www.analog.com/static/imported-files/packages/PKG_PDF/SC70(KS)/KS_6.pdf; ComponentLink4Description: Product URL; ComponentLink4URL: http://www.analog.com/en/digital-to-analog-converters/da-converters/ad5612/products/product.html
footprint KS-6_N (SOT23, 6-Leads, Body 2x1.3mm, Pitch 0.65mm, Lead Span 2.1mm, IPC Medium Density)
footprint KS-6_L (SOT23, 6-Leads, Body 2x1.3mm, Pitch 0.65mm, Lead Span 2.1mm, IPC High Density)
footprint KS-6_M (SOT23, 6-Leads, Body 2x1.3mm, Pitch 0.65mm, Lead Span 2.1mm, IPC Low Density)
pins: 1 ADDR (in) "Three-State Address Input. Sets the two least significant bits (Bit A1, Bit A0) of the 7-bit slave address.", 2 SCL (in) "Serial Clock Line. This is used in conjunction with the SDA line to clock data into or out of the 16-bit input register.", 3 SDA (io) "Serial Data Line. This is used in conjunction with the SCL line to clock data into or out of the 16-bit input register. It is a bidirectional, open-drain data line that should be pulled to the supply with an external pull-up (See Datasheet)", 4 VDD (power) "Power Supply Input. These parts can be operated from 2.7 V to 5.5 V, and VDD should be decoupled to GND.", 5 GND (power) "Ground. The ground reference point for all circuitry on the part.", 6 VOUT (hiz) "Analog Output Voltage from the DAC.The output amplifier has rail-to-rail operation."

## AD5612YKSZ-1REEL7
designator U?
Single 10-Bit nanoDAC with I2C Interface, 2.7 to 5.5 V, <100 uA, -40 to +125 degC, KS-6, Pb-Free, Reel; Generic Part Number: AD5612; Manufacturer: Analog Devices; PartNumber: AD5612YKSZ-1REEL7; # DAC Outputs: 1; Max V+: 5.5V; Op Pwr Diss: 500µW; Resolution (Bits): 10; Settling Time: 6µs; Single Supply: Yes; DatasheetVersion: Rev.C; PackageVersion: 072809-A; PackageReference: KS-6; PackageDescription: 6-Lead Thin Shrink Small Outline Transistor Package [SC70]; Supplier 1: Digi-Key; Supplier Part Number 1: AD5612YKSZ-1REEL7TR-ND; Supplier 2: Digi-Key; Supplier Part Number 2: AD5612YKSZ-1REEL7CT-ND; Supplier 3: Digi-Key; Supplier Part Number 3: AD5612YKSZ-1REEL7DKR-ND; Supplier 4: Mouser; Supplier Part Number 4: 584-AD5612YKSZ-1R7; Packing: Reel; RoHS: Y; Mounting Technology: Surface Mount; Code_JEDEC: MO-203-AB; ComponentLink1Description: Manufacturer URL; ComponentLink1URL: http://www.analog.com/en/index.html; ComponentLink2Description: Datasheet; ComponentLink2URL: http://www.analog.com/static/imported-files/data_sheets/AD5602_5612_5622.pdf; ComponentLink3Description: Package Specification; ComponentLink3URL: http://www.analog.com/static/imported-files/packages/PKG_PDF/SC70(KS)/KS_6.pdf; ComponentLink4Description: Product URL; ComponentLink4URL: http://www.analog.com/en/digital-to-analog-converters/da-converters/ad5612/products/product.html
footprint KS-6_N (SOT23, 6-Leads, Body 2x1.3mm, Pitch 0.65mm, Lead Span 2.1mm, IPC Medium Density)
footprint KS-6_L (SOT23, 6-Leads, Body 2x1.3mm, Pitch 0.65mm, Lead Span 2.1mm, IPC High Density)
footprint KS-6_M (SOT23, 6-Leads, Body 2x1.3mm, Pitch 0.65mm, Lead Span 2.1mm, IPC Low Density)
pins: 1 ADDR (in) "Three-State Address Input. Sets the two least significant bits (Bit A1, Bit A0) of the 7-bit slave address.", 2 SCL (in) "Serial Clock Line. This is used in conjunction with the SDA line to clock data into or out of the 16-bit input register.", 3 SDA (io) "Serial Data Line. This is used in conjunction with the SCL line to clock data into or out of the 16-bit input register. It is a bidirectional, open-drain data line that should be pulled to the supply with an external pull-up (See Datasheet)", 4 VDD (power) "Power Supply Input. These parts can be operated from 2.7 V to 5.5 V, and VDD should be decoupled to GND.", 5 GND (power) "Ground. The ground reference point for all circuitry on the part.", 6 VOUT (hiz) "Analog Output Voltage from the DAC.The output amplifier has rail-to-rail operation."

## AD5612YKSZ-2REEL7
designator U?
Single 10-Bit nanoDAC with I2C-Compatible Interface in LFCSP and SC70, 2.7 to 5.5 V, <100 uA, -40 to +125 degC, KS-6, Pb-Free, Reel; Generic Part Number: AD5612; Manufacturer: Analog Devices; PartNumber: AD5612YKSZ-2REEL7; # DAC Outputs: 1; Max V+: 5.5V; Op Pwr Diss: 500µW; Resolution (Bits): 10; Settling Time: 6µs; Single Supply: Yes; DatasheetVersion: Rev.C; PackageVersion: 072809-A; PackageReference: KS-6; PackageDescription: 6-Lead Thin Shrink Small Outline Transistor Package [SC70]; Supplier 1: Digi-Key; Supplier Part Number 1: AD5612YKSZ-2REEL7TR-ND; Supplier 2: Digi-Key; Supplier Part Number 2: AD5612YKSZ-2REEL7CT-ND; Supplier 3: Digi-Key; Supplier Part Number 3: AD5612YKSZ-2REEL7DKR-ND; Supplier 4: Mouser; Supplier Part Number 4: 584-AD5612YKSZ-2R7; Packing: Reel; RoHS: Y; Mounting Technology: Surface Mount; Code_JEDEC: MO-203-AB; ComponentLink1Description: Manufacturer URL; ComponentLink1URL: http://www.analog.com/en/index.html; ComponentLink2Description: Datasheet; ComponentLink2URL: http://www.analog.com/static/imported-files/data_sheets/AD5602_5612_5622.pdf; ComponentLink3Description: Package Specification; ComponentLink3URL: http://www.analog.com/static/imported-files/packages/PKG_PDF/SC70(KS)/KS_6.pdf; ComponentLink4Description: Product URL; ComponentLink4URL: http://www.analog.com/en/digital-to-analog-converters/da-converters/ad5612/products/product.html
footprint KS-6_N (SOT23, 6-Leads, Body 2x1.3mm, Pitch 0.65mm, Lead Span 2.1mm, IPC Medium Density)
footprint KS-6_L (SOT23, 6-Leads, Body 2x1.3mm, Pitch 0.65mm, Lead Span 2.1mm, IPC High Density)
footprint KS-6_M (SOT23, 6-Leads, Body 2x1.3mm, Pitch 0.65mm, Lead Span 2.1mm, IPC Low Density)
pins: 1 ADDR (in) "Three-State Address Input. Sets the two least significant bits (Bit A1, Bit A0) of the 7-bit slave address.", 2 SCL (in) "Serial Clock Line. This is used in conjunction with the SDA line to clock data into or out of the 16-bit input register.", 3 SDA (io) "Serial Data Line. This is used in conjunction with the SCL line to clock data into or out of the 16-bit input register. It is a bidirectional, open-drain data line that should be pulled to the supply with an external pull-up (See Datasheet)", 4 VDD (power) "Power Supply Input. These parts can be operated from 2.7 V to 5.5 V, and VDD should be decoupled to GND.", 5 GND (power) "Ground. The ground reference point for all circuitry on the part.", 6 VOUT (hiz) "Analog Output Voltage from the DAC.The output amplifier has rail-to-rail operation."

## AD5612YKSZ-1500RL7
designator U?
Single 10-Bit nanoDAC with I2C Interface, 2.7 to 5.5 V, <100 uA, -40 to +125 degC, KS-6, Pb-Free, Reel; Generic Part Number: AD5612; Manufacturer: Analog Devices; PartNumber: AD5612YKSZ-1500RL7; # DAC Outputs: 1; Max V+: 5.5V; Op Pwr Diss: 500µW; Resolution (Bits): 10; Settling Time: 6µs; Single Supply: Yes; DatasheetVersion: Rev.C; PackageVersion: 072809-A; PackageReference: KS-6; PackageDescription: 6-Lead Thin Shrink Small Outline Transistor Package [SC70]; Supplier 1: Digi-Key; Supplier Part Number 1: AD5612YKSZ-1500RL7TR-ND; Supplier 2: Digi-Key; Supplier Part Number 2: AD5612YKSZ-1500RL7CT-ND; Supplier 3: Digi-Key; Supplier Part Number 3: AD5612YKSZ-1500RL7DKR-ND; Supplier 4: Newark; Supplier Part Number 4: 12M8571; Supplier 5: Mouser; Supplier Part Number 5: 584-AD5612YKSZ1500R7; Packing: Reel; RoHS: Y; Mounting Technology: Surface Mount; Code_JEDEC: MO-203-AB; ComponentLink1Description: Manufacturer URL; ComponentLink1URL: http://www.analog.com/en/index.html; ComponentLink2Description: Datasheet; ComponentLink2URL: http://www.analog.com/static/imported-files/data_sheets/AD5602_5612_5622.pdf; ComponentLink3Description: Package Specification; ComponentLink3URL: http://www.analog.com/static/imported-files/packages/PKG_PDF/SC70(KS)/KS_6.pdf; ComponentLink4Description: Product URL; ComponentLink4URL: http://www.analog.com/en/digital-to-analog-converters/da-converters/ad5612/products/product.html
footprint KS-6_N (SOT23, 6-Leads, Body 2x1.3mm, Pitch 0.65mm, Lead Span 2.1mm, IPC Medium Density)
footprint KS-6_L (SOT23, 6-Leads, Body 2x1.3mm, Pitch 0.65mm, Lead Span 2.1mm, IPC High Density)
footprint KS-6_M (SOT23, 6-Leads, Body 2x1.3mm, Pitch 0.65mm, Lead Span 2.1mm, IPC Low Density)
pins: 1 ADDR (in) "Three-State Address Input. Sets the two least significant bits (Bit A1, Bit A0) of the 7-bit slave address.", 2 SCL (in) "Serial Clock Line. This is used in conjunction with the SDA line to clock data into or out of the 16-bit input register.", 3 SDA (io) "Serial Data Line. This is used in conjunction with the SCL line to clock data into or out of the 16-bit input register. It is a bidirectional, open-drain data line that should be pulled to the supply with an external pull-up (See Datasheet)", 4 VDD (power) "Power Supply Input. These parts can be operated from 2.7 V to 5.5 V, and VDD should be decoupled to GND.", 5 GND (power) "Ground. The ground reference point for all circuitry on the part.", 6 VOUT (hiz) "Analog Output Voltage from the DAC.The output amplifier has rail-to-rail operation."

## AD5612YKSZ-2500RL7
designator U?
Single 10-Bit nanoDAC with I2C Interface, 2.7 to 5.5 V, <100 uA, -40 to +125 degC, KS-6, Pb-Free, Reel; Generic Part Number: AD5612; Manufacturer: Analog Devices; PartNumber: AD5612YKSZ-2500RL7; # DAC Outputs: 1; Max V+: 5.5V; Op Pwr Diss: 500µW; Resolution (Bits): 10; Settling Time: 6µs; Single Supply: Yes; DatasheetVersion: Rev.C; PackageVersion: 072809-A; PackageReference: KS-6; PackageDescription: 6-Lead Thin Shrink Small Outline Transistor Package [SC70]; Supplier 1: Digi-Key; Supplier Part Number 1: AD5612YKSZ-2500RL7TR-ND; Supplier 2: Digi-Key; Supplier Part Number 2: AD5612YKSZ-2500RL7CT-ND; Supplier 3: Digi-Key; Supplier Part Number 3: AD5612YKSZ-2500RL7DKR-ND; Supplier 4: Mouser; Supplier Part Number 4: 584-AD5612YKSZ2500R7; Packing: Reel; RoHS: Y; Mounting Technology: Surface Mount; Code_JEDEC: MO-203-AB; ComponentLink1Description: Manufacturer URL; ComponentLink1URL: http://www.analog.com/en/index.html; ComponentLink2Description: Datasheet; ComponentLink2URL: http://www.analog.com/static/imported-files/data_sheets/AD5602_5612_5622.pdf; ComponentLink3Description: Package Specification; ComponentLink3URL: http://www.analog.com/static/imported-files/packages/PKG_PDF/SC70(KS)/KS_6.pdf; ComponentLink4Description: Product URL; ComponentLink4URL: http://www.analog.com/en/digital-to-analog-converters/da-converters/ad5612/products/product.html
footprint KS-6_N (SOT23, 6-Leads, Body 2x1.3mm, Pitch 0.65mm, Lead Span 2.1mm, IPC Medium Density)
footprint KS-6_L (SOT23, 6-Leads, Body 2x1.3mm, Pitch 0.65mm, Lead Span 2.1mm, IPC High Density)
footprint KS-6_M (SOT23, 6-Leads, Body 2x1.3mm, Pitch 0.65mm, Lead Span 2.1mm, IPC Low Density)
pins: 1 ADDR (in) "Three-State Address Input. Sets the two least significant bits (Bit A1, Bit A0) of the 7-bit slave address.", 2 SCL (in) "Serial Clock Line. This is used in conjunction with the SDA line to clock data into or out of the 16-bit input register.", 3 SDA (io) "Serial Data Line. This is used in conjunction with the SCL line to clock data into or out of the 16-bit input register. It is a bidirectional, open-drain data line that should be pulled to the supply with an external pull-up (See Datasheet)", 4 VDD (power) "Power Supply Input. These parts can be operated from 2.7 V to 5.5 V, and VDD should be decoupled to GND.", 5 GND (power) "Ground. The ground reference point for all circuitry on the part.", 6 VOUT (hiz) "Analog Output Voltage from the DAC.The output amplifier has rail-to-rail operation."

## AD5620ARJ-2REEL7
designator U?
Single 12-Bit nanoDAC with 5 ppm/degC On-Chip Reference, -40 to +105 degC, RJ-8, Reel; Generic Part Number: AD5620; Manufacturer: Analog Devices; PartNumber: AD5620ARJ-2REEL7; # DAC Outputs: 1; Max V+: 5.5V; Op Pwr Diss: 5mW; Resolution (Bits): 12; Settling Time: 8µs; Single Supply: Yes; DatasheetVersion: Rev.F; PackageVersion: 121608-A; PackageReference: RJ-8; PackageDescription: 8-Lead Thin Small Outline Transistor Package [SOT-23]; Supplier 1: Digi-Key; Supplier Part Number 1: AD5620ARJ-2REEL7TR-ND; Supplier 2: Digi-Key; Supplier Part Number 2: AD5620ARJ-2REEL7CT-ND; Supplier 3: Digi-Key; Supplier Part Number 3: AD5620ARJ-2REEL7DKR-ND; Supplier 4: Mouser; Supplier Part Number 4: 584-AD5620ARJ-2R7; Packing: Reel; RoHS: N; Mounting Technology: Surface Mount; Code_JEDEC: MO-178-BA; ComponentLink1Description: Manufacturer URL; ComponentLink1URL: http://www.analog.com/en/index.html; ComponentLink2Description: Datasheet; ComponentLink2URL: http://www.analog.com/static/imported-files/data_sheets/AD5620_5640_5660.pdf; ComponentLink3Description: Package Specification; ComponentLink3URL: http://www.analog.com/static/imported-files/packages/PKG_PDF/SOT-23(RJ)/RJ_8.pdf; ComponentLink4Description: Product URL; ComponentLink4URL: http://www.analog.com/en/digital-to-analog-converters/da-converters/ad5620/products/product.html; ComponentLink5Description: Reference Design URL; ComponentLink5URL: http://www.analog.com/en/digital-to-analog-converters/da-converters/ad5620/products/product.html#prod_cross_sell
footprint RJ-8_N (SOP, 8-Leads, Body 2.9x1.6mm, Pitch 0.65mm, IPC Medium Density)
footprint RJ-8_L (SOP, 8-Leads, Body 2.9x1.6mm, Pitch 0.65mm, IPC High Density)
footprint RJ-8_M (SOP, 8-Leads, Body 2.9x1.6mm, Pitch 0.65mm, IPC Low Density)
pins: 1 DIN (in) "Serial Data Input. This device has a 24-bit shift register. Data is clocked into the register on the falling edge of the serial clock input.", 2 VDD (power) "Power Supply Input. These parts can be operated from 2.7 V to 5.5 V, and VDD should be decoupled to GND.", 3 VREF (in) "Reference Voltage Input.", 4 VOUT (out) "Analog Output Voltage from DAC.", 5 AGND (power) "Ground Reference Point for Analog Circuitry.", 6 DACGND (power) "Ground Input to the DAC.", 7 ~{SYNC} (in) "Level-Triggered Control Input (Active Low). This is the frame synchronization signal for the input data. When S\Y\N\C\ goes low, it enables the input shift register, and data is transferred in on the falling edges of the (See Datasheet)", 8 SCLK (in) "Serial Clock Input. Data is clocked into the input shift register on the falling edge of the serial clock input. Data can be transferred at rates up to 30 MHz."